# EAGLE library part LED-MATRIX-16X16-SINGLE (library mylib)
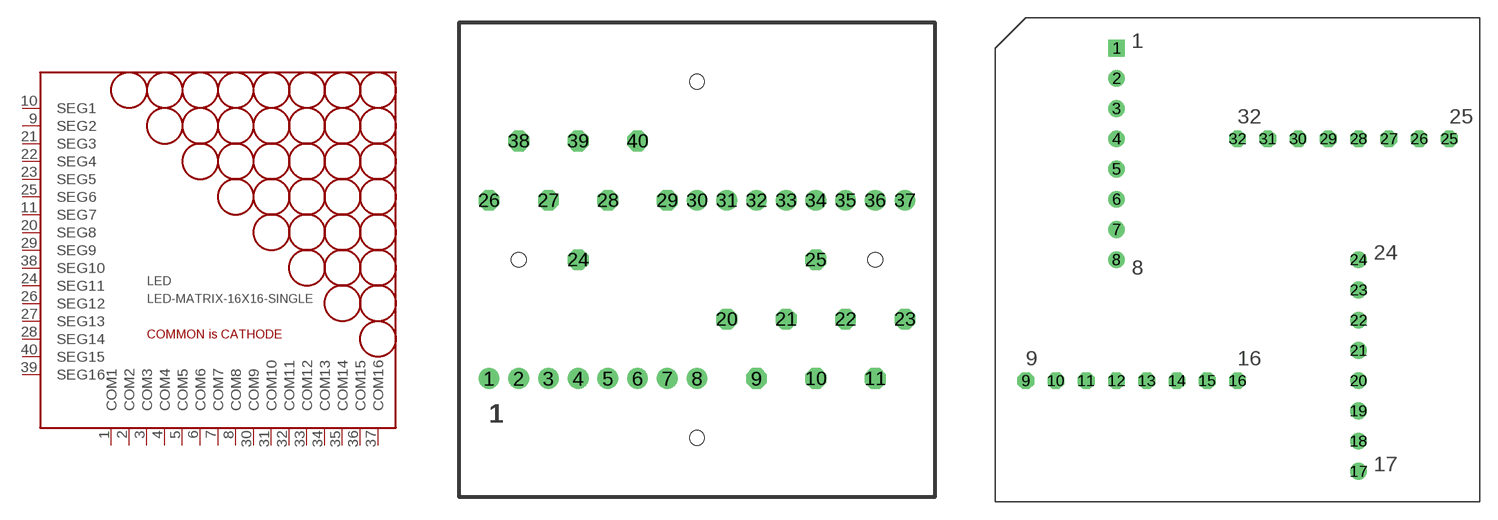
[diagram p14: symbol with the pads of LED-MATRIX-16X16-RG-2MM; footprints LED-MATRIX-16X16-RG-2MM, LED16X16-2.5]

Designator prefix LED

## LED-MATRIX-16X16-SINGLE-B  [LED-MATRIX-16X16-RG-2MM]
1  COM1
2  COM2
3  COM3
4  COM4
5  COM5
6  COM6
7  COM7
8  COM8
9  SEG2
10  SEG1
11  SEG7
20  SEG8
21  SEG3
22  SEG4
23  SEG5
24  SEG11
25  SEG6
26  SEG12
27  SEG13
28  SEG14
29  SEG9
30  COM9
31  COM10
32  COM11
33  COM12
34  COM13
35  COM14
36  COM15
37  COM16
38  SEG10
39  SEG16
40  SEG15

## LED-MATRIX-16X16-SINGLE-A  [LED16X16-2.5]
1  SEG1
2  SEG2
3  SEG3
4  SEG4
5  SEG5
6  SEG6
7  SEG7
8  SEG8
9  COM1
10  COM2
11  COM3
12  COM4
13  COM5
14  COM6
15  COM7
16  COM8
17  SEG9
18  SEG10
19  SEG11
20  SEG12
21  SEG13
22  SEG14
23  SEG15
24  SEG16
25  COM9
26  COM10
27  COM11
28  COM12
29  COM13
30  COM14
31  COM15
32  COM16

## Footprint LED-MATRIX-16X16-RG-2MM (pad centres in mm)
drill 0.889: 1 -14,-8; 2 -12,-8; 3 -10,-8; 4 -8,-8; 5 -6,-8; 6 -4,-8; 7 -2,-8; 8 0,-8; 30 0,4; 31 2,4; 32 4,4; 33 6,4; 34 8,4; 35 10,4; 36 12,4; 37 14,4
drill 0.889 octagon: 9 4,-8; 10 8,-8; 11 12,-8; 20 2,-4; 21 6,-4; 22 10,-4; 23 14,-4; 24 -8,0; 25 8,0; 26 -14,4; 27 -10,4; 28 -6,4; 29 -2,4; 38 -12,8; 39 -8,8; 40 -4,8
hole 0.991 at 0,-12
hole 0.991 at 12,0
hole 0.991 at -12,0
hole 0.991 at 0,12

## Footprint LED16X16-2.5 (pad centres in mm)
drill 0.9 square: 1 0,8.89
drill 0.9: 2 0,6.35; 3 0,3.81; 4 0,1.27; 5 0,-1.27; 6 0,-3.81; 7 0,-6.35; 8 0,-8.89; 17 20.32,-26.67; 18 20.32,-24.13; 19 20.32,-21.59; 20 20.32,-19.05; 21 20.32,-16.51; 22 20.32,-13.97; 23 20.32,-11.43; 24 20.32,-8.89
drill 0.9 octagon: 9 -7.62,-19.05; 10 -5.08,-19.05; 11 -2.54,-19.05; 12 0,-19.05; 13 2.54,-19.05; 14 5.08,-19.05; 15 7.62,-19.05; 16 10.16,-19.05; 25 27.94,1.27; 26 25.4,1.27; 27 22.86,1.27; 28 20.32,1.27; 29 17.78,1.27; 30 15.24,1.27; 31 12.7,1.27; 32 10.16,1.27